# Altium footprint library schematic_connector.PcbLib: 1 footprints
Each footprint in its own frame and in the unit in brackets; x right, y up, seen from the top. Pads: shape width x height; smd on the part's side, far side on the other; paste and mask are expansions set on the pad; w line width, h text height; cw(c..) or ccw(c..) is an arc to the next point about the centre after c.
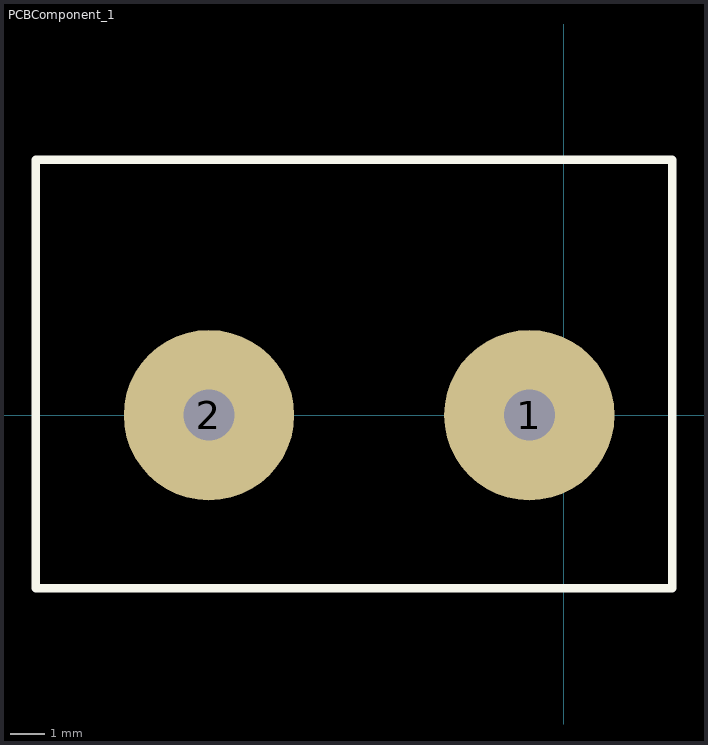
[diagram p0: the footprint, top view; thin cyan lines are the x and y axes]

## PCBComponent_1 [mm]
pads (2):
  round 5 hole 1.5: 1(-1.016,0) 2(-10.414,0)
Top Overlay:
  lines w0.254: -15.494,-5.08 3.175,-5.08 3.175,7.493 -15.494,7.493 -15.494,-5.08